# Altium schematic symbol library MOSFET BSC0921NDI.Schlib: 1 symbol
Pins are listed as number, name and electrical type; pins without a type are passive.

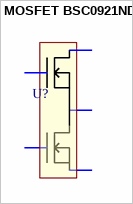
[diagram p0: symbol MOSFET BSC0921NDI]

## MOSFET BSC0921NDI
designator U?
MOSFET N+N 30V 17A; MF: Infineon Technologies; Supplier 1: Digi-Key; Supplier Part Number 1: BSC0921NDIATMA1CT-ND
footprint PG-TISON-8-2 (Infineon TISON Dual Mosfet Merged S1D2)
pins: D1, G1, G2, S1D2, S2